# Altium schematic symbol library SCH - MCU - SI LABS - SI LABS EFM32GG11B110F2048GM64 64-PIN QFN 9X9.SchLib: 1 symbol
Pins are listed as number, name and electrical type; pins without a type are passive.

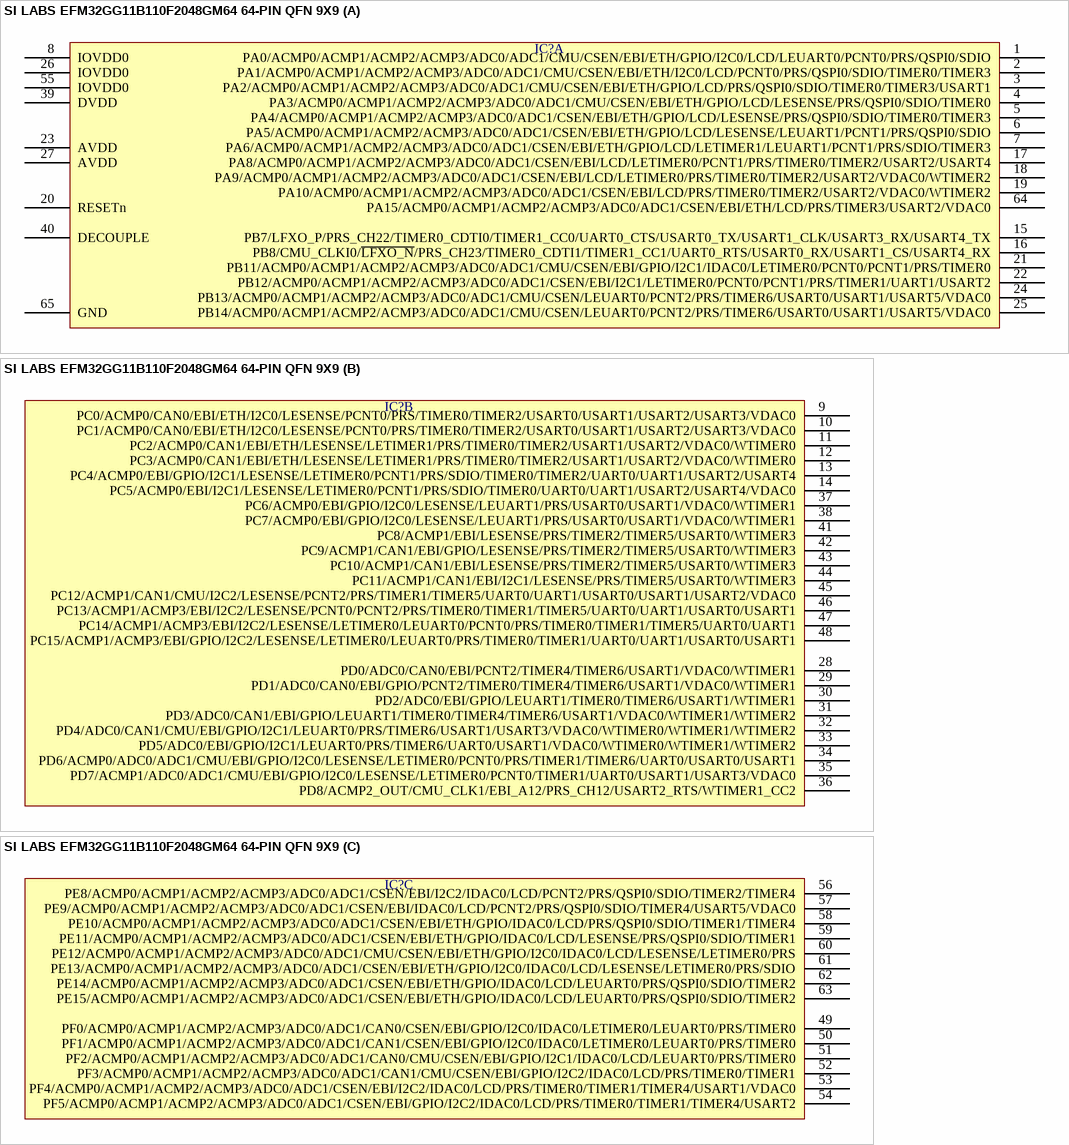
[diagram p0: symbol SI LABS EFM32GG11B110F2048GM64 64-PIN QFN 9X9]

## SI LABS EFM32GG11B110F2048GM64 64-PIN QFN 9X9
designator IC?  (value not drawn)
part A pins: 1 PA0/ACMP0/ACMP1/ACMP2/ACMP3/ADC0/ADC1/CMU/CSEN/EBI/ETH/GPIO/I2C0/LCD/LEUART0/PCNT0/PRS/QSPI0/SDIO, 2 PA1/ACMP0/ACMP1/ACMP2/ACMP3/ADC0/ADC1/CMU/CSEN/EBI/ETH/I2C0/LCD/PCNT0/PRS/QSPI0/SDIO/TIMER0/TIMER3, 3 PA2/ACMP0/ACMP1/ACMP2/ACMP3/ADC0/ADC1/CMU/CSEN/EBI/ETH/GPIO/LCD/PRS/QSPI0/SDIO/TIMER0/TIMER3/USART1, 4 PA3/ACMP0/ACMP1/ACMP2/ACMP3/ADC0/ADC1/CMU/CSEN/EBI/ETH/GPIO/LCD/LESENSE/PRS/QSPI0/SDIO/TIMER0, 5 PA4/ACMP0/ACMP1/ACMP2/ACMP3/ADC0/ADC1/CSEN/EBI/ETH/GPIO/LCD/LESENSE/PRS/QSPI0/SDIO/TIMER0/TIMER3, 6 PA5/ACMP0/ACMP1/ACMP2/ACMP3/ADC0/ADC1/CSEN/EBI/ETH/GPIO/LCD/LESENSE/LEUART1/PCNT1/PRS/QSPI0/SDIO, 7 PA6/ACMP0/ACMP1/ACMP2/ACMP3/ADC0/ADC1/CSEN/EBI/ETH/GPIO/LCD/LETIMER1/LEUART1/PCNT1/PRS/SDIO/TIMER3, 8 IOVDD0, 15 PB7/LFXO_P/PRS_CH22/TIMER0_CDTI0/TIMER1_CC0/UART0_CTS/USART0_TX/USART1_CLK/USART3_RX/USART4_TX, 16 PB8/CMU_CLKI0/~{LFXO_N}/PRS_CH23/TIMER0_CDTI1/TIMER1_CC1/UART0_RTS/USART0_RX/USART1_CS/USART4_RX, 17 PA8/ACMP0/ACMP1/ACMP2/ACMP3/ADC0/ADC1/CSEN/EBI/LCD/LETIMER0/PCNT1/PRS/TIMER0/TIMER2/USART2/USART4, 18 PA9/ACMP0/ACMP1/ACMP2/ACMP3/ADC0/ADC1/CSEN/EBI/LCD/LETIMER0/PRS/TIMER0/TIMER2/USART2/VDAC0/WTIMER2, 19 PA10/ACMP0/ACMP1/ACMP2/ACMP3/ADC0/ADC1/CSEN/EBI/LCD/PRS/TIMER0/TIMER2/USART2/VDAC0/WTIMER2, 20 RESETn, 21 PB11/ACMP0/ACMP1/ACMP2/ACMP3/ADC0/ADC1/CMU/CSEN/EBI/GPIO/I2C1/IDAC0/LETIMER0/PCNT0/PCNT1/PRS/TIMER0, 22 PB12/ACMP0/ACMP1/ACMP2/ACMP3/ADC0/ADC1/CSEN/EBI/I2C1/LETIMER0/PCNT0/PCNT1/PRS/TIMER1/UART1/USART2, 23 AVDD, 24 PB13/ACMP0/ACMP1/ACMP2/ACMP3/ADC0/ADC1/CMU/CSEN/LEUART0/PCNT2/PRS/TIMER6/USART0/USART1/USART5/VDAC0, 25 PB14/ACMP0/ACMP1/ACMP2/ACMP3/ADC0/ADC1/CMU/CSEN/LEUART0/PCNT2/PRS/TIMER6/USART0/USART1/USART5/VDAC0, 26 IOVDD0, 27 AVDD, 39 DVDD, 40 DECOUPLE, 55 IOVDD0, 64 PA15/ACMP0/ACMP1/ACMP2/ACMP3/ADC0/ADC1/CSEN/EBI/ETH/LCD/PRS/TIMER3/USART2/VDAC0, 65 GND
part B pins: 9 PC0/ACMP0/CAN0/EBI/ETH/I2C0/LESENSE/PCNT0/PRS/TIMER0/TIMER2/USART0/USART1/USART2/USART3/VDAC0, 10 PC1/ACMP0/CAN0/EBI/ETH/I2C0/LESENSE/PCNT0/PRS/TIMER0/TIMER2/USART0/USART1/USART2/USART3/VDAC0, 11 PC2/ACMP0/CAN1/EBI/ETH/LESENSE/LETIMER1/PRS/TIMER0/TIMER2/USART1/USART2/VDAC0/WTIMER0, 12 PC3/ACMP0/CAN1/EBI/ETH/LESENSE/LETIMER1/PRS/TIMER0/TIMER2/USART1/USART2/VDAC0/WTIMER0, 13 PC4/ACMP0/EBI/GPIO/I2C1/LESENSE/LETIMER0/PCNT1/PRS/SDIO/TIMER0/TIMER2/UART0/UART1/USART2/USART4, 14 PC5/ACMP0/EBI/I2C1/LESENSE/LETIMER0/PCNT1/PRS/SDIO/TIMER0/UART0/UART1/USART2/USART4/VDAC0, 28 PD0/ADC0/CAN0/EBI/PCNT2/TIMER4/TIMER6/USART1/VDAC0/WTIMER1, 29 PD1/ADC0/CAN0/EBI/GPIO/PCNT2/TIMER0/TIMER4/TIMER6/USART1/VDAC0/WTIMER1, 30 PD2/ADC0/EBI/GPIO/LEUART1/TIMER0/TIMER6/USART1/WTIMER1, 31 PD3/ADC0/CAN1/EBI/GPIO/LEUART1/TIMER0/TIMER4/TIMER6/USART1/VDAC0/WTIMER1/WTIMER2, 32 PD4/ADC0/CAN1/CMU/EBI/GPIO/I2C1/LEUART0/PRS/TIMER6/USART1/USART3/VDAC0/WTIMER0/WTIMER1/WTIMER2, 33 PD5/ADC0/EBI/GPIO/I2C1/LEUART0/PRS/TIMER6/UART0/USART1/VDAC0/WTIMER0/WTIMER1/WTIMER2, 34 PD6/ACMP0/ADC0/ADC1/CMU/EBI/GPIO/I2C0/LESENSE/LETIMER0/PCNT0/PRS/TIMER1/TIMER6/UART0/USART0/USART1, 35 PD7/ACMP1/ADC0/ADC1/CMU/EBI/GPIO/I2C0/LESENSE/LETIMER0/PCNT0/TIMER1/UART0/USART1/USART3/VDAC0, 36 PD8/ACMP2_OUT/CMU_CLK1/EBI_A12/PRS_CH12/USART2_RTS/WTIMER1_CC2, 37 PC6/ACMP0/EBI/GPIO/I2C0/LESENSE/LEUART1/PRS/USART0/USART1/VDAC0/WTIMER1, 38 PC7/ACMP0/EBI/GPIO/I2C0/LESENSE/LEUART1/PRS/USART0/USART1/VDAC0/WTIMER1, 41 PC8/ACMP1/EBI/LESENSE/PRS/TIMER2/TIMER5/USART0/WTIMER3, 42 PC9/ACMP1/CAN1/EBI/GPIO/LESENSE/PRS/TIMER2/TIMER5/USART0/WTIMER3, 43 PC10/ACMP1/CAN1/EBI/LESENSE/PRS/TIMER2/TIMER5/USART0/WTIMER3, 44 PC11/ACMP1/CAN1/EBI/I2C1/LESENSE/PRS/TIMER5/USART0/WTIMER3, 45 PC12/ACMP1/CAN1/CMU/I2C2/LESENSE/PCNT2/PRS/TIMER1/TIMER5/UART0/UART1/USART0/USART1/USART2/VDAC0, 46 PC13/ACMP1/ACMP3/EBI/I2C2/LESENSE/PCNT0/PCNT2/PRS/TIMER0/TIMER1/TIMER5/UART0/UART1/USART0/USART1, 47 PC14/ACMP1/ACMP3/EBI/I2C2/LESENSE/LETIMER0/LEUART0/PCNT0/PRS/TIMER0/TIMER1/TIMER5/UART0/UART1, 48 PC15/ACMP1/ACMP3/EBI/GPIO/I2C2/LESENSE/LETIMER0/LEUART0/PRS/TIMER0/TIMER1/UART0/UART1/USART0/USART1
part C pins: 49 PF0/ACMP0/ACMP1/ACMP2/ACMP3/ADC0/ADC1/CAN0/CSEN/EBI/GPIO/I2C0/IDAC0/LETIMER0/LEUART0/PRS/TIMER0, 50 PF1/ACMP0/ACMP1/ACMP2/ACMP3/ADC0/ADC1/CAN1/CSEN/EBI/GPIO/I2C0/IDAC0/LETIMER0/LEUART0/PRS/TIMER0, 51 PF2/ACMP0/ACMP1/ACMP2/ACMP3/ADC0/ADC1/CAN0/CMU/CSEN/EBI/GPIO/I2C1/IDAC0/LCD/LEUART0/PRS/TIMER0, 52 PF3/ACMP0/ACMP1/ACMP2/ACMP3/ADC0/ADC1/CAN1/CMU/CSEN/EBI/GPIO/I2C2/IDAC0/LCD/PRS/TIMER0/TIMER1, 53 PF4/ACMP0/ACMP1/ACMP2/ACMP3/ADC0/ADC1/CSEN/EBI/I2C2/IDAC0/LCD/PRS/TIMER0/TIMER1/TIMER4/USART1/VDAC0, 54 PF5/ACMP0/ACMP1/ACMP2/ACMP3/ADC0/ADC1/CSEN/EBI/GPIO/I2C2/IDAC0/LCD/PRS/TIMER0/TIMER1/TIMER4/USART2, 56 PE8/ACMP0/ACMP1/ACMP2/ACMP3/ADC0/ADC1/CSEN/EBI/I2C2/IDAC0/LCD/PCNT2/PRS/QSPI0/SDIO/TIMER2/TIMER4, 57 PE9/ACMP0/ACMP1/ACMP2/ACMP3/ADC0/ADC1/CSEN/EBI/IDAC0/LCD/PCNT2/PRS/QSPI0/SDIO/TIMER4/USART5/VDAC0, 58 PE10/ACMP0/ACMP1/ACMP2/ACMP3/ADC0/ADC1/CSEN/EBI/ETH/GPIO/IDAC0/LCD/PRS/QSPI0/SDIO/TIMER1/TIMER4, 59 PE11/ACMP0/ACMP1/ACMP2/ACMP3/ADC0/ADC1/CSEN/EBI/ETH/GPIO/IDAC0/LCD/LESENSE/PRS/QSPI0/SDIO/TIMER1, 60 PE12/ACMP0/ACMP1/ACMP2/ACMP3/ADC0/ADC1/CMU/CSEN/EBI/ETH/GPIO/I2C0/IDAC0/LCD/LESENSE/LETIMER0/PRS, 61 PE13/ACMP0/ACMP1/ACMP2/ACMP3/ADC0/ADC1/CSEN/EBI/ETH/GPIO/I2C0/IDAC0/LCD/LESENSE/LETIMER0/PRS/SDIO, 62 PE14/ACMP0/ACMP1/ACMP2/ACMP3/ADC0/ADC1/CSEN/EBI/ETH/GPIO/IDAC0/LCD/LEUART0/PRS/QSPI0/SDIO/TIMER2, 63 PE15/ACMP0/ACMP1/ACMP2/ACMP3/ADC0/ADC1/CSEN/EBI/ETH/GPIO/IDAC0/LCD/LEUART0/PRS/QSPI0/SDIO/TIMER2